# EAGLE library part 687122144821 (library Wuerth_Elektronik_eiCan_03_ZIF_Connectors_Flat_Flexible_Cable)
WR-FPC 0.5mm SMT ZIF Horizontal Bottom Contact Low Profil 1.2mm Height, 22 Pins
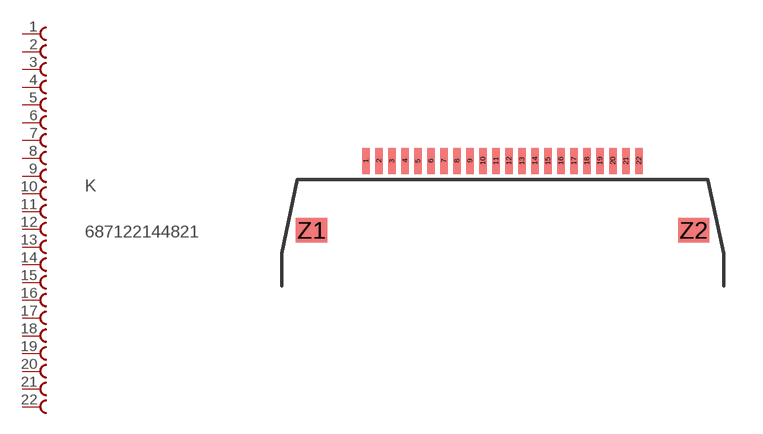
[diagram p10: symbol with the pads of 687122144821; footprint 687122144821]

Designator prefix K

## 687122144821  [687122144821]
1  1  pas
2  2  pas
3  3  pas
4  4  pas
5  5  pas
6  6  pas
7  7  pas
8  8  pas
9  9  pas
10  10  pas
11  11  pas
12  12  pas
13  13  pas
14  14  pas
15  15  pas
16  16  pas
17  17  pas
18  18  pas
19  19  pas
20  20  pas
21  21  pas
22  22  pas

## Footprint 687122144821 (pad centres in mm)
WR-FPC 0.5mm SMT ZIF Horizontal Bottom Contact Low Profil 1.2mm Height, 22 Pins
smd 0.3 x 1: 1 -5.25,4.825; 2 -4.75,4.825; 3 -4.25,4.825; 4 -3.75,4.825; 5 -3.25,4.825; 6 -2.75,4.825; 7 -2.25,4.825; 8 -1.75,4.825; 9 -1.25,4.825; 10 -0.75,4.825; 11 -0.25,4.825; 12 0.25,4.825; 13 0.75,4.825; 14 1.25,4.825; 15 1.75,4.825; 16 2.25,4.825; 17 2.75,4.825; 18 3.25,4.825; 19 3.75,4.825; 20 4.25,4.825; 21 4.75,4.825; 22 5.25,4.825
smd 1.2 x 0.95: Z1 -7.35,2.15; Z2 7.35,2.15